# Altium schematic symbol library Tactile switch SPST.SchLib: 1 symbol
Pins are listed as number, name and electrical type; pins without a type are passive.

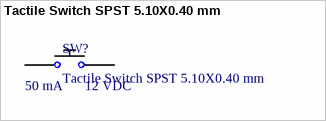
[diagram p0: symbol Tactile Switch SPST 5.10X0.40 mm]

## Tactile Switch SPST 5.10X0.40 mm
designator SW?  Voltage: 12 VDC  Current: 50 mA
TACTILE SWITCHES SPST 5.10MM X 5.10MM 0.40MM 50MA @ 12VDC SMD ROHS; Manufacturer: XKB Enterprise; MFR.Part #: TS-1187A-B-A-B; LCSC Part #: C318884; Package: SMD-SW-4_5.1x5.1x1.5
footprint PCBComponent_1
pins: 1 A, 2 B